# Altium schematic symbol library ActiveCrystal_10MHz.SchLib: 1 symbol
Pins are listed as number, name and electrical type; pins without a type are passive.

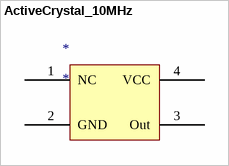
[diagram p0: symbol ActiveCrystal_10MHz]

## ActiveCrystal_10MHz
designator *
footprint ActiveCrystal_10MHz_7050 (DFN, 4-Leads, Body 7.00x5.00mm, Pitch 4.00mm, IPC Medium Density)
pins: 1 NC, 2 GND, 3 Out, 4 VCC